# EAGLE library part KSZ8081RNBIA-TR (library KSZ8081RNBIA-TR)
KSZ8081 Series 10Base-T / 100Base-TX Ethernet Physical Layer Transceiver -QFN-32
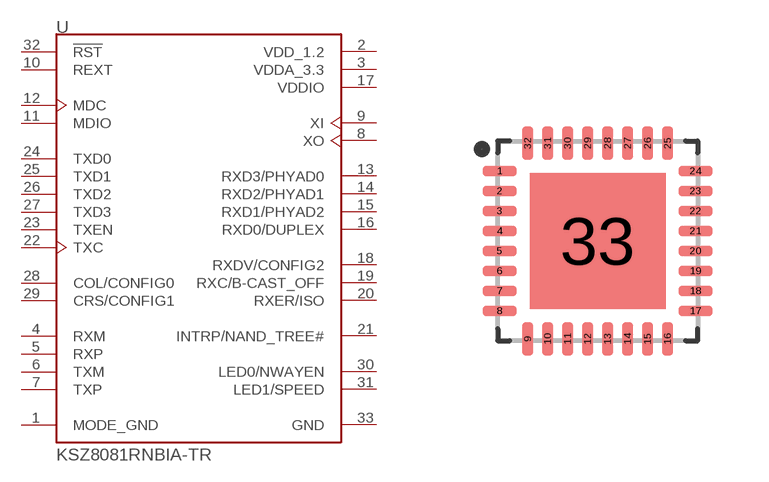
[diagram p0: symbol with the pads of QFN50P500X500X100-33N; footprint QFN50P500X500X100-33N]

Designator prefix U

## KSZ8081RNBIA-TR (AVAILABILITY: Unavailable; DESCRIPTION: 1/1 Transceiver Full RMII 32-QFN _5x5_; MF: Microchip; MP: KSZ8081RNBIA-TR; PACKAGE: QFN-32 Microchip; PRICE: None)  [QFN50P500X500X100-33N]
1  MODE_GND
2  VDD_1.2  pwr
3  VDDA_3.3  pwr
4  RXM
5  RXP
6  TXM
7  TXP
8  XO  out
9  XI  in
10  REXT  in
11  MDIO
12  MDC  in
13  RXD3/PHYAD0
14  RXD2/PHYAD1
15  RXD1/PHYAD2
16  RXD0/DUPLEX
17  VDDIO  pwr
18  RXDV/CONFIG2
19  RXC/B-CAST_OFF
20  RXER/ISO
21  INTRP/NAND_TREE#
22  TXC
23  TXEN  in
24  TXD0  in
25  TXD1  in
26  TXD2  in
27  TXD3  in
28  COL/CONFIG0
29  CRS/CONFIG1
30  LED0/NWAYEN
31  LED1/SPEED
32  !RST  in
33  GND  pwr

## Footprint QFN50P500X500X100-33N (pad centres in mm)
smd 0.84 x 0.26: 1 -2.45,1.75; 2 -2.45,1.25; 3 -2.45,0.75; 4 -2.45,0.25; 5 -2.45,-0.25; 6 -2.45,-0.75; 7 -2.45,-1.25; 8 -2.45,-1.75; 17 2.45,-1.75; 18 2.45,-1.25; 19 2.45,-0.75; 20 2.45,-0.25; 21 2.45,0.25; 22 2.45,0.75; 23 2.45,1.25; 24 2.45,1.75
smd 0.26 x 0.84: 9 -1.75,-2.45; 10 -1.25,-2.45; 11 -0.75,-2.45; 12 -0.25,-2.45; 13 0.25,-2.45; 14 0.75,-2.45; 15 1.25,-2.45; 16 1.75,-2.45; 25 1.75,2.45; 26 1.25,2.45; 27 0.75,2.45; 28 0.25,2.45; 29 -0.25,2.45; 30 -0.75,2.45; 31 -1.25,2.45; 32 -1.75,2.45
smd 3.4 x 3.4: 33 0,0